# Altium schematic symbol library MAX5033AASA+T.SchLib: 1 symbol
Pins are listed as number, name and electrical type; pins without a type are passive.

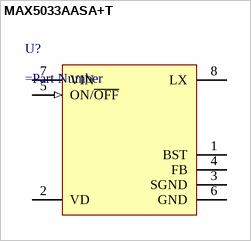
[diagram p0: symbol MAX5033AASA+T]

## MAX5033AASA+T
designator U?
=Description; ComponentLink1Description: Datasheet; ComponentLink1URL: https://www.mouser.ca/datasheet/2/445/61304011121-1718151.pdf
pins: 1 BST (power), 2 VD (power), 3 SGND (power), 4 FB (power), 5 ON/~{OFF} (in), 6 GND (power), 7 VIN (power), 8 LX (power)